# Altium schematic symbol library CMM3729_memsMIC.SchLib: 1 symbol
Pins are listed as number, name and electrical type; pins without a type are passive.

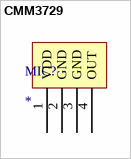
[diagram p0: symbol CMM3729]

## CMM3729
designator MIC?
footprint DFN246P295X110-4N (DFN, 4-Leads, Body 3,76x2,95mm, Pitch 2,46mm, IPC Medium Density)
pins: 1 VDD, 2 GND, 3 GND, 4 OUT